# EAGLE library part INA219AID (library CanCubeSat)
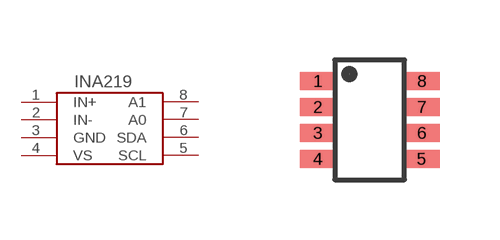
[diagram p1: symbol with the pads of INA219AID; footprint INA219AID]

Designator prefix -

## INA219AID  [INA219AID]
1  IN+
2  IN-
3  GND
4  VS
5  SCL
6  SDA
7  A0
8  A1

## Footprint INA219AID (pad centres in mm)
smd 0.9 x 0.45: 1 -1.3,0.975; 2 -1.3,0.325; 3 -1.3,-0.325; 4 -1.3,-0.975; 5 1.3,-0.975; 6 1.3,-0.325; 7 1.3,0.325; 8 1.3,0.975